# Altium schematic symbol library M1017SZE6_Library.SchLib: 37 symbols
Pins are listed as number, name and electrical type; pins without a type are passive.

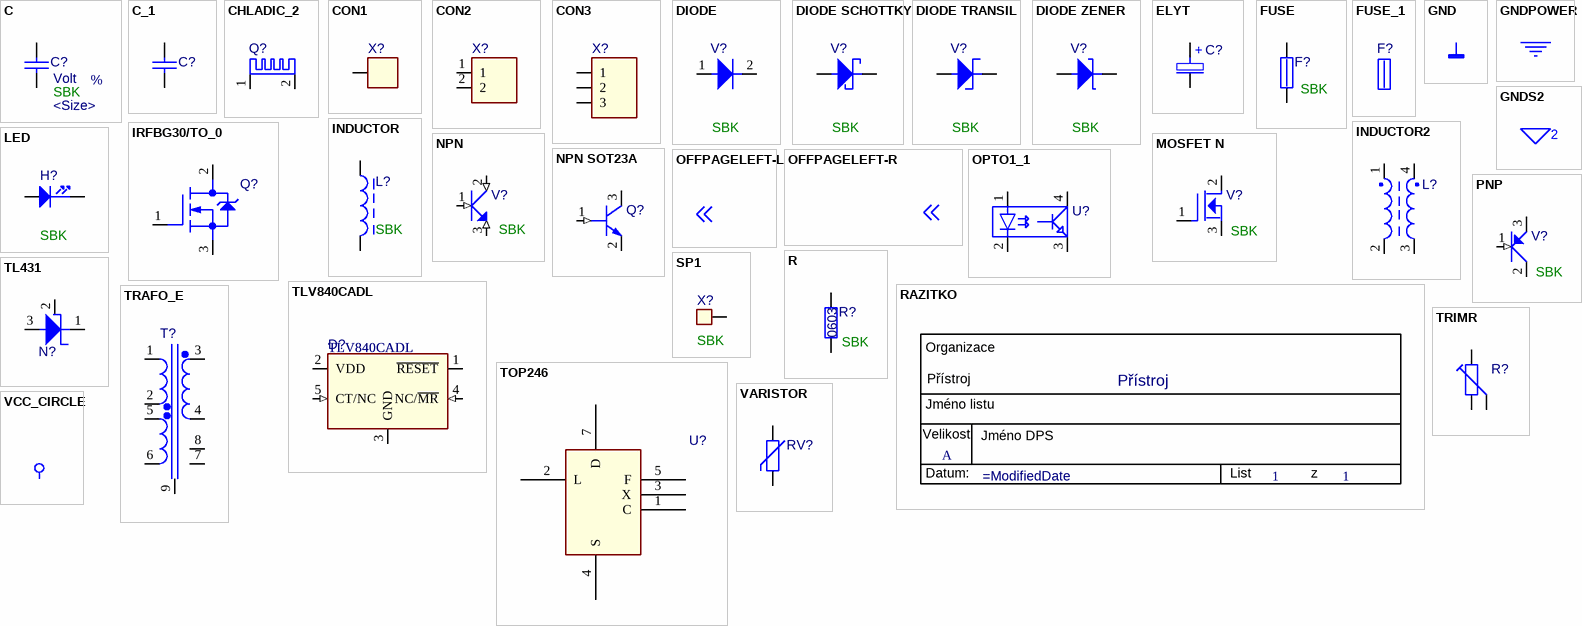
[diagram p0: symbols C to VCC_CIRCLE]

## C
designator C?  Voltage: Volt  Tolerance: %  MEgA_ID: SBK  Size: <Size>
footprint Z0805
pins: 1, 2

## C_1
designator C?
footprint Z0805
pins: 1, 2

## CHLADIC_2
designator Q?
pins: 1, 2

## CON1
designator X?
pins: 1

## CON2
designator X?
pins: 1, 2

## CON3
designator X?
pins: 1, 2, 3

## DIODE
designator V?  MEGA_ID: SBK
pins: 1 A, 2 K

## DIODE SCHOTTKY
designator V?  MEGA_ID: SBK
pins: 1 A, 2 K

## DIODE TRANSIL
designator V?  MEGA_ID: SBK
pins: 1 A, 2 K

## DIODE ZENER
designator V?  MEGA_ID: SBK
pins: 1 A, 2 K

## ELYT
designator C?
pins: 1 PLUS, 2 MINUS
text: +

## FUSE
designator F?  MEGA_ID: SBK
pins: 1, 2

## FUSE_1
designator F?

## GND
designator *  (value not drawn)  (graphical)
pins: $PIN0 (power) hidden to $PIN0

## GNDPOWER
designator *  (value not drawn)  (graphical)
SDTSourceLibName: C:\rd\ui\DEVICE.LIB
pins: GND (power) hidden to GND

## GNDS2
designator *  (value not drawn)  (graphical)
pins: GNDSIG (power) hidden to GNDSIG
text: 2

## INDUCTOR
designator L?  MEGA_ID: SBK
pins: 1, 2

## INDUCTOR2
designator L?
pins: 1, 2, 3, 4

## IRFBG30/TO_0
designator Q?
pins: 1 G, 2 D, 3 S

## LED
designator H?  MEGA_ID: SBK
Potisk
pins: 1 A, 2 K

## MOSFET N
designator V?  MEGA_ID: SBK
pins: 1 G, 2 D, 3 S

## NPN
designator V?  MEGA_ID: SBK
pins: 1 B (in), 2 C (in), 3 E (in)

## NPN SOT23A
designator Q?
pins: 1 BASE (in), 2 EMITTER, 3 COLLECTOR

## OFFPAGELEFT-L
designator *  (value not drawn)  (graphical)
pins: $PIN0 (in) hidden

## OFFPAGELEFT-R
designator *  (value not drawn)  (graphical)
pins: $PIN0 (in) hidden

## OPTO1_1
designator U?
pins: 1, 2, 3, 4

## PNP
designator V?  MEGA_ID: SBK
pins: 1 B (in), 2 C, 3 E

## R
designator R?  MEgA_ID: SBK  Size: 0603
footprint Z0805
pins: 1, 2

## RAZITKO
designator *  OrgAddr1: Přístroj  Page Size: A  Page Number: 1  (hidden comment: *)  (graphical)
RevCode: 0; Page Create Date: March  8, 1995; Page Count: 1; Page Modify Date: =ModifiedDate
text: Organizace; Jméno listu; Velikost; Jméno DPS; Datum:; List; z

## SP1
designator X?  MEGA_ID: SBK
Potisk
pins: 1

## TL431
designator N?
footprint ZSOT23A
pins: 1 C, 2 R, 3 A

## TLV840CADL
designator D?
Value: TLV840CADL
footprint ZSOT23_5
pins: 1 ~{RESET} (oc), 2 VDD (power), 3 GND (power), 4 NC/~{MR} (in), 5 CT/NC (in)

## TOP246
designator U?
pins: 1 C, 2 L, 3 X, 4 S, 5 F, 7 D

## TRAFO_E
designator T?
pins: 1, 2, 3, 4, 5, 6, 7, 8, 9

## TRIMR
designator R?
pins: 1, 2, 3

## VARISTOR
designator RV?
pins: 1, 2

## VCC_CIRCLE
designator *  (value not drawn)  (graphical)
pins: $PIN0 (power) hidden to $PIN0